# Altium footprint library PAD_TH_OBLONG.PcbLib: 1 footprints
Each footprint in its own frame and in the unit in brackets; x right, y up, seen from the top. Pads: shape width x height; smd on the part's side, far side on the other; paste and mask are expansions set on the pad; w line width, h text height; cw(c..) or ccw(c..) is an arc to the next point about the centre after c.
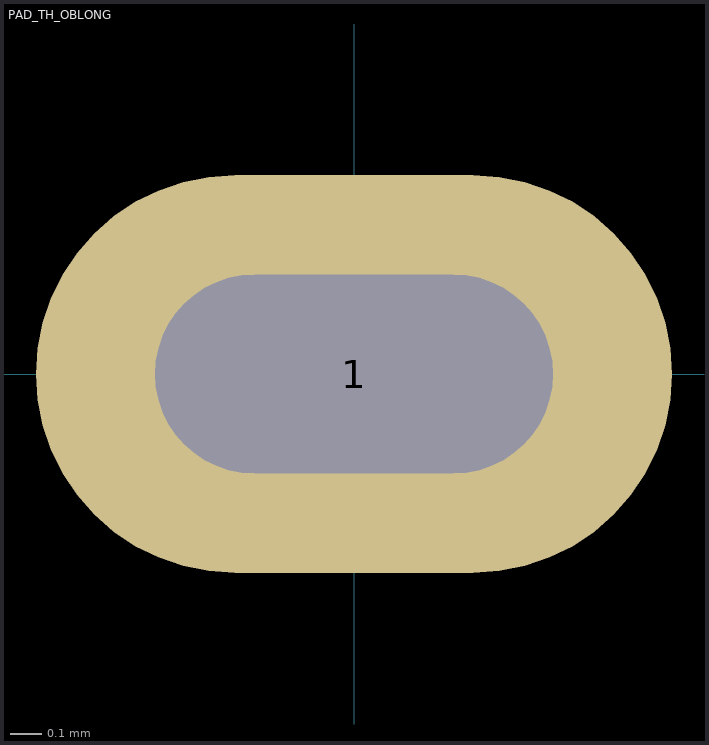
[diagram p0: the footprint, top view; thin cyan lines are the x and y axes]

## PAD_TH_OBLONG [mil] "Oblong through-hole pad"
pads (1):
  oval 80x50 hole 25 slot 50 at 0 deg: 1(0,0)